# EAGLE library part PIC32MM (library PIC32MM0256GPM036_UQFN_40PIN_v5)
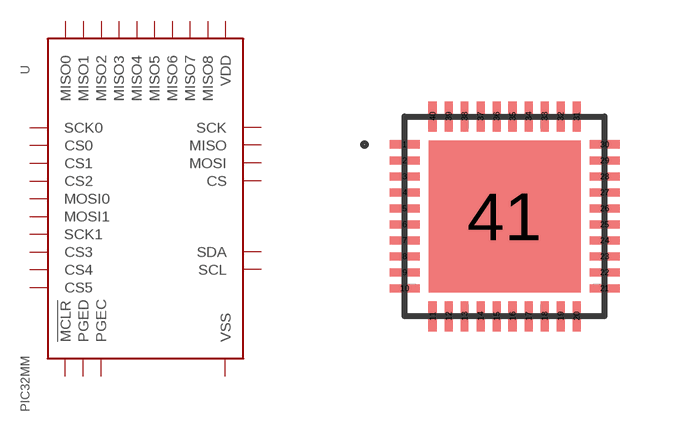
[diagram p0: symbol with the pads of PIC32MM0256GPM036_UQFN_40PIN; footprint PIC32MM0256GPM036_UQFN_40PIN]

Designator prefix -

## PIC32MM"  [PIC32MM0256GPM036_UQFN_40PIN]
1  SDA
2  SCL
3  MISO0  in
4  MISO1  in
5  MISO2  in
6  VSS  pwr
7  SCK0
8  SCK1
9  MISO3  in
10  MISO4  in
11  MISO5  in
12  VSS  pwr
13  VDD  sup
14  MISO6  in
15  MISO7  in
16  MISO8  in
17  MOSI0  out
18  SCK
20  MISO  in
21  MOSI1  out
22  CS0  out
26  VDD  sup
27  CS1  out
28  CS2  out
30  CS3  out
31  MOSI  out
32  CS  out
33  VSS  pwr
34  VDD  sup
35  !MCLR  in
36  CS4  out
37  CS5  out
38  PGED
39  PGEC
41  VSS  pwr

## Footprint PIC32MM0256GPM036_UQFN_40PIN (pad centres in mm)
smd 0.75 x 0.2: 1 -2.5,1.8; 2 -2.5,1.4; 3 -2.5,1; 4 -2.5,0.6; 5 -2.5,0.2; 6 -2.5,-0.2; 7 -2.5,-0.6; 8 -2.5,-1; 9 -2.5,-1.4; 10 -2.5,-1.8; 21 2.5,-1.8; 22 2.5,-1.4; 23 2.5,-1; 24 2.5,-0.6; 25 2.5,-0.2; 26 2.5,0.2; 27 2.5,0.6; 28 2.5,1; 29 2.5,1.4; 30 2.5,1.8
smd 0.2 x 0.75: 11 -1.8,-2.5; 12 -1.4,-2.5; 13 -1,-2.5; 14 -0.6,-2.5; 15 -0.2,-2.5; 16 0.2,-2.5; 17 0.6,-2.5; 18 1,-2.5; 19 1.4,-2.5; 20 1.8,-2.5; 31 1.8,2.5; 32 1.4,2.5; 33 1,2.5; 34 0.6,2.5; 35 0.2,2.5; 36 -0.2,2.5; 37 -0.6,2.5; 38 -1,2.5; 39 -1.4,2.5; 40 -1.8,2.5
smd 3.8 x 3.8: 41 0,0